# Altium footprint library PEI_PCB_1.1.PcbLib: 310 footprints (part 4 of 20)
Each footprint in its own frame and in the unit in brackets; x right, y up, seen from the top. Pads: shape width x height; smd on the part's side, far side on the other; paste and mask are expansions set on the pad; w line width, h text height; cw(c..) or ccw(c..) is an arc to the next point about the centre after c.
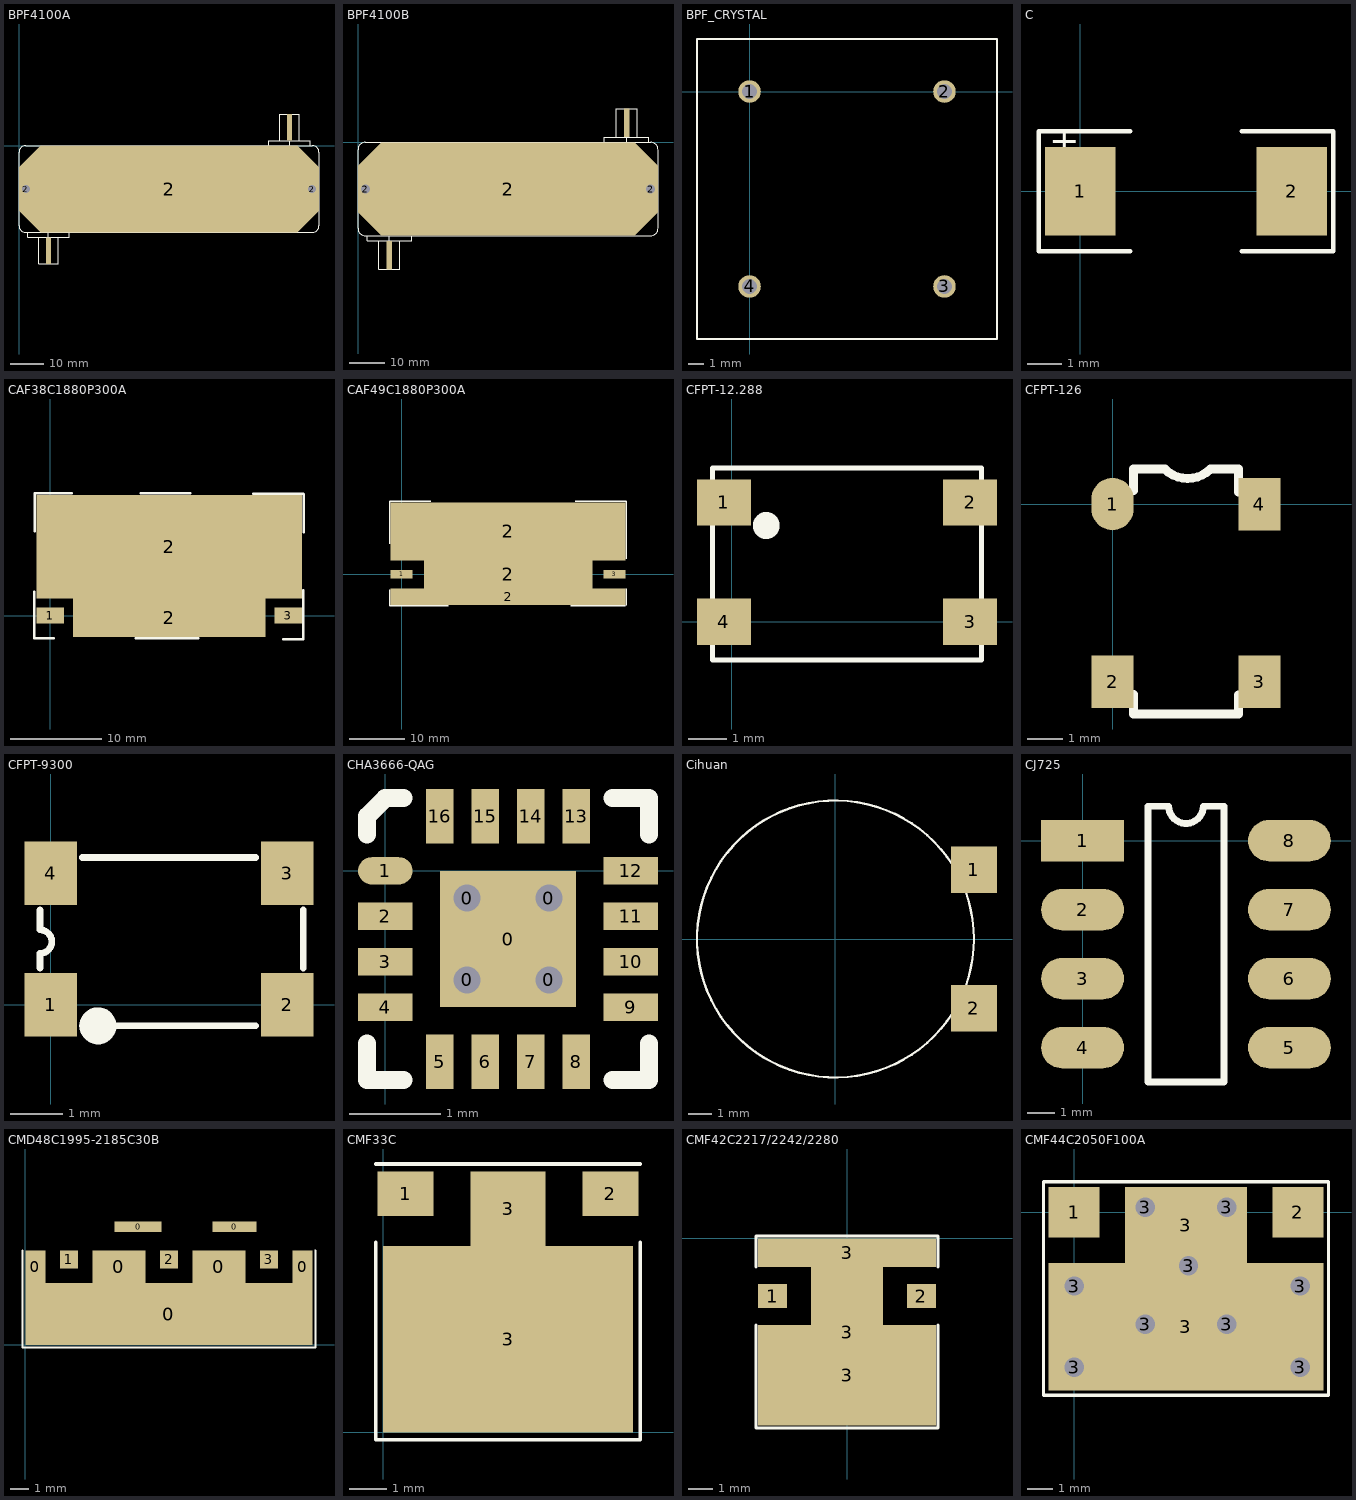
[diagram p3: the footprints below, top view; thin cyan lines are the x and y axes]

## BPF4100A [mm]
pads (5):
  rect 1.5x8 smd: 1(8.9,-31.7) 3(81.75,5.5)
  round 3.5 hole 2.5: 2(2.1,-13.1) 2(88.55,-13.1)
  oct 90.65x26.2 smd: 2(45.325,-13.1)
TopOverlay:
  lines w0.127: 2.65,-26.2 2.65,-27.7 15.15,-27.7 15.15,-26.2 ; 5.9,-27.7 5.9,-35.7 11.9,-35.7 11.9,-27.7 ; 8.9,-27.7 8.9,-26.2 ; 75.5,0 75.5,1.5 88,1.5 88,0 ; 78.75,1.5 78.75,9.5 84.75,9.5 84.75,1.5 ; 81.75,0 81.75,1.5 ; 0,-24.2 ccw(c2,-24.2) 2,-26.2 88.65,-26.2 ccw(c88.65,-24.2) 90.65,-24.2 90.65,-2 ccw(c88.65,-2) 88.65,0 2,0 ccw(c2,-2) 0,-2 0,-24.2

## BPF4100B [mm]
pads (5):
  rect 1.5x8 smd: 1(8.8,-31.7) 3(75.55,5.5)
  round 3.5 hole 2.5: 2(2.1,-13.1) 2(82.25,-13.1)
  oct 84.35x26.2 smd: 2(42.175,-13.1)
TopOverlay:
  lines w0.127: 2.55,-26.2 2.55,-27.7 15.05,-27.7 15.05,-26.2 ; 5.8,-27.7 5.8,-35.7 11.8,-35.7 11.8,-27.7 ; 8.8,-27.7 8.8,-26.2 ; 69.3,0 69.3,1.5 81.8,1.5 81.8,0 ; 72.55,1.5 72.55,9.5 78.55,9.5 78.55,1.5 ; 75.55,0 75.55,1.5 ; 0,-24.2 ccw(c2,-24.2) 2,-26.2 82.35,-26.2 ccw(c82.35,-24.2) 84.35,-24.2 84.35,-2 ccw(c82.35,-2) 82.35,0 2,0 ccw(c2,-2) 0,-2 0,-24.2

## BPF_CRYSTAL [mm]
pads (4):
  round 1.5 hole 1: 1(0,0) 2(13,0) 3(13,-13) 4(0,-13)
TopOverlay:
  lines w0.127: -3.5,-16.5 16.5,-16.5 16.5,3.5 -3.5,3.5 -3.5,-16.5

## C [mil]
pads (2):
  rect 80x100 smd: 1(0,0) 2(240,0)
TopOverlay:
  lines w5: 57,-68 -47,-68 -47,68 57,68 ; 183,-68 287,-68 287,68 183,68
  text "+" at -35,43 h30

## CAF38C1880P300A [mm]
pads (4):
  rect 3x1.7 smd: 1(0,0) 3(26,0)
  rect 21x4.2 smd: 2(13,-0.25)
  rect 29x11.3 smd: 2(13,7.5)
TopOverlay:
  lines w0.254: -1.727,2.591 -1.727,-2.464 0.381,-2.464 ; -1.702,9.169 -1.702,13.335 -1.676,13.36 2.337,13.36 ; 9.347,-2.464 16.18,-2.464 ; 9.881,13.36 15.316,13.36 ; 22.174,13.31 27.584,13.31 27.661,13.233 27.661,9.068 ; 25.451,-2.591 27.61,-2.591 27.635,-2.565 27.635,2.743

## CAF49C1880P300A [mm]
pads (5):
  rect 4x1.5 smd: 1(0,0) 3(38.6,0)
  rect 42.6x3 smd: 2(19.3,-4.05)
  rect 30.6x5.1 smd: 2(19.3,0)
  rect 42.6x10.5 smd: 2(19.3,7.8)
TopOverlay:
  lines w0.254: -2.21,5.563 -2.21,13.233 5.283,13.233 ; -2.159,-2.819 -2.159,-5.664 -2.108,-5.715 8.407,-5.715 ; 30.683,-5.715 40.589,-5.715 ; 31.471,13.233 40.665,13.233 40.716,13.183 40.716,2.794 ; 40.792,-5.588 40.792,-2.642

## CFPT-12.288 [mm]
height 2.2
pads (4):
  rect 1.4x1.2 smd: 1(-0.2,3.1) 2(6.2,3.1) 3(6.2,0) 4(-0.2,0)
TopOverlay:
  circle w0.5: c0.9,2.5 r0.1
  lines w0.127: -0.5,-1 -0.5,4 6.5,4 6.5,-1 -0.5,-1

## CFPT-126 [mm]
pads (4):
  oval 1.2x1.5 smd: 1(0,0)
  rect 1.2x1.5 smd: 2(0,-5.08) 3(4.2,-5.08) 4(4.2,0)
TopOverlay:
  lines w0.254: 0.6,-5.443 0.6,-6 3.6,-6 3.6,-5.455 ; 0.6,0.389 0.6,1 1.496,1 ccw(c2.148,1.652) 2.799,1 3.6,1 3.6,0.342

## CFPT-9300 [mm]
pads (4):
  rect 1x1.2 smd: 1(0,0) 2(4.5,0) 3(4.5,2.5) 4(0,2.5)
TopOverlay:
  circle w0.5: c0.9,-0.4 r0.1
  lines w0.127: -0.2,0.7 -0.2,0.976 ccw(c-0.2,1.2) -0.2,1.424 -0.2,1.8 ; 0.6,-0.4 3.9,-0.4 ; 0.6,2.8 3.9,2.8 ; 4.8,0.7 4.8,1.8

## CHA3666-QAG [mm]
pads (21):
  round 0.5 hole 0.3: 0(0.9,-1.2) 0(0.9,-0.3) 0(1.8,-1.2) 0(1.8,-0.3)
  rect 1.5x1.5 smd: 0(1.35,-0.75)
  oval 0.6x0.3 smd: 1(0,0)
  rect 0.6x0.3 smd: 2(0,-0.5) 3(0,-1) 4(0,-1.5) 9(2.7,-1.5) 10(2.7,-1) 11(2.7,-0.5) 12(2.7,0)
  rect 0.3x0.6 smd: 5(0.6,-2.1) 6(1.1,-2.1) 7(1.6,-2.1) 8(2.1,-2.1) 13(2.1,0.6) 14(1.6,0.6) 15(1.1,0.6) 16(0.6,0.6)
TopOverlay:
  lines w0.2: -0.2,-1.9 -0.2,-2.3 0.2,-2.3 ; -0.2,0.4 -0.2,0.6 0,0.8 0.2,0.8 ; 2.5,-2.3 2.9,-2.3 2.9,-1.9 ; 2.5,0.8 2.9,0.8 2.9,0.4

## Cihuan [mm]
height 16
pads (2):
  rect 2x2 smd: 1(6,3) 2(6,-3)
TopOverlay:
  circle w0.1: c0,0 r6

## CJ725 [mil]
pads (8):
  rect 120x60 smd: 1(0,0)
  oval 120x60 smd: 2(0,-100) 3(0,-200) 4(0,-300) 5(300,-300) 6(300,-200) 7(300,-100) 8(300,0)
TopOverlay:
  lines w10: 95,-350 95,50 125,50 ccw(c150,50) 175,50 205,50 205,-350 95,-350

## CMD48C1995-2185C30B [mm]
pads (10):
  rect 1.1x1.8 smd: 0(0.55,4.3) 0(15.25,4.3)
  rect 2.9x1.8 smd: 0(5.15,4.3) 0(10.65,4.3)
  rect 2.6x0.6 smd: 0(6.2,6.5)
  rect 15.8x3.4 smd: 0(7.9,1.7)
  rect 2.4x0.6 smd: 0(11.5,6.5)
  rect 1x1 smd: 1(2.4,4.7) 2(7.9,4.7) 3(13.4,4.7)
TopOverlay:
  lines w0.1: -0.15,5.2 -0.15,-0.15 15.95,-0.15 15.95,5.2 ; 15.95,5.2 15.95,5.2

## CMF33C [mm]
pads (4):
  rect 1.5x1.2 smd: 1(0.6,6.4) 2(6.1,6.4)
  rect 6.7x5 smd: 3(3.35,2.5)
  rect 2x2 smd: 3(3.35,6)
TopOverlay:
  lines w0.1: -0.2,5.1 -0.2,-0.2 6.9,-0.2 6.9,5.1 ; -0.2,7.2 6.9,7.2

## CMF42C2217/2242/2280 [mm]
pads (5):
  rect 1.2x1 smd: 1(-3.1,-2.4) 2(3.1,-2.4)
  rect 7.4x4.2 smd: 3(0,-5.7)
  rect 3x7.8 smd: 3(0,-3.9)
  rect 7.4x1.2 smd: 3(0,-0.6)
TopOverlay:
  lines w0.127: -3.8,-3.6 -3.8,-7.9 3.8,-7.9 3.8,-3.6 ; -3.8,-1.2 -3.8,0.1 3.8,0.1 3.8,-1.2

## CMF44C2050F100A [mm]
pads (13):
  rect 2x2 smd: 1(0,0) 2(8.8,0)
  round 1.27 hole 0.762: 3(0,-6.1) 3(0,-2.9) 3(2.8,-4.4) 3(2.8,0.2) 3(4.5,-2.1) 3(6,-4.4) 3(6,0.2) 3(8.9,-6.1) 3(8.9,-2.9)
  rect 10.8x5 smd: 3(4.4,-4.5)
  rect 4.8x3 smd: 3(4.4,-0.5)
TopOverlay:
  lines w0.127: -1.2,-7.2 10,-7.2 10,1.2 -1.2,1.2 -1.2,-7.2